# Altium schematic symbol library JLCPCB_CAP_SMD_MLCC.SchLib: 44 symbols
Pins are listed as number, name and electrical type; pins without a type are passive.

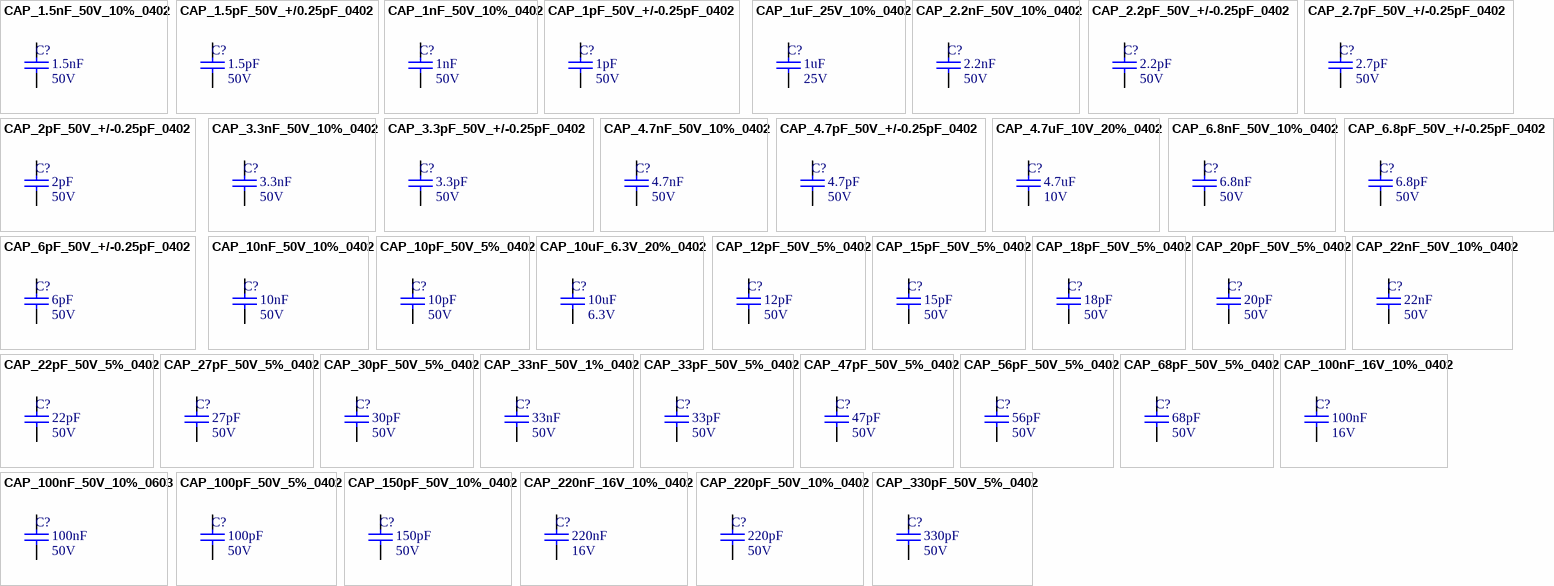
[diagram p0: symbols CAP_1.5nF_50V_10%_0402 to CAP_330pF_50V_5%_0402]

## CAP_1.5nF_50V_10%_0402
designator C?, comment value 1.5nF  Voltage: 50V  (hidden comment: basic)
1.5nF 50V 0402 Multilayer Ceramic Capacitors MLCC - SMD/SMT RoHS; MFR_Part#: CL05B152KB5NNNC; Manufacturer: Samsung Electro-Mechanics; In Stock: Yes; Dielectric: X7R; Tolerance: 10%; ComponentLink1Description: Datasheet; ComponentLink1URL: https://datasheet.lcsc.com/szlcsc/Samsung-Electro-Mechanics-CL05B152KB5NNNC_C23967.pdf; LCSC_Part#: C23967; Package: 0402; Thickness: 0.5mm
footprint CAP_0402_REFLOW (Chip Capacitor, 2-Leads, Body 1,00x0,50mm, IPC Medium Density)
pins: 1, 2

## CAP_1.5pF_50V_+/0.25pF_0402
designator C?, comment value 1.5pF  Voltage: 50V  (hidden comment: basic)
1.5pF 50V 0402 Multilayer Ceramic Capacitors MLCC - SMD/SMT RoHS; MFR_Part#: 0402CG1R5C500NT; Manufacturer: Guangdong Fenghua Advanced Tech; In Stock: Yes; Dielectric: C0G; Tolerance: +/0.25pF; ComponentLink1Description: Datasheet; ComponentLink1URL: https://datasheet.lcsc.com/szlcsc/Guangdong-Fenghua-Advanced-Tech-0402CG1R5C500NT_C1552.pdf; LCSC_Part#: C1552; Package: 0402; Thickness: 0.5mm
footprint CAP_0402_REFLOW (Chip Capacitor, 2-Leads, Body 1,00x0,50mm, IPC Medium Density)
pins: 1, 2

## CAP_1nF_50V_10%_0402
designator C?, comment value 1nF  Voltage: 50V  (hidden comment: basic)
1nF 50V 0402 Multilayer Ceramic Capacitors MLCC - SMD/SMT RoHS; MFR_Part#: 0402B102K500NT; Manufacturer: Guangdong Fenghua Advanced Tech; In Stock: Yes; Dielectric: X7R; Tolerance: 10%; ComponentLink1Description: Datasheet; ComponentLink1URL: https://datasheet.lcsc.com/szlcsc/Guangdong-Fenghua-Advanced-Tech-0402B102K500NT_C1523.pdf; LCSC_Part#: C1523; Package: 0402; Thickness: 0.5mm
footprint CAP_0402_REFLOW (Chip Capacitor, 2-Leads, Body 1,00x0,50mm, IPC Medium Density)
pins: 1, 2

## CAP_1pF_50V_+/-0.25pF_0402
designator C?, comment value 1pF  Voltage: 50V  (hidden comment: basic)
1pF 50V 0402 Multilayer Ceramic Capacitors MLCC - SMD/SMT RoHS; MFR_Part#: 0402CG1R0C500NT; Manufacturer: Guangdong Fenghua Advanced Tech; In Stock: Yes; Dielectric: C0G; Tolerance: +/-0.25pF; ComponentLink1Description: Datasheet; ComponentLink1URL: https://datasheet.lcsc.com/szlcsc/Guangdong-Fenghua-Advanced-Tech-0402CG1R0C500NT_C1550.pdf; LCSC_Part#: C1550; Package: 0402; Thickness: 0.5mm
footprint CAP_0402_REFLOW (Chip Capacitor, 2-Leads, Body 1,00x0,50mm, IPC Medium Density)
pins: 1, 2

## CAP_1uF_25V_10%_0402
designator C?, comment value 1uF  Voltage: 25V  (hidden comment: basic)
1uF 25V 10% 0402 Multilayer Ceramic Capacitors MLCC - SMD/SMT RoHS; MFR_Part#: CL05A105KA5NQNC; Manufacturer: Samsung Electro-Mechanics; In Stock: Yes; Dielectric: X5R; ComponentLink1Description: Datasheet; ComponentLink1URL: https://datasheet.lcsc.com/szlcsc/Samsung-Electro-Mechanics-CL05A105KA5NQNC_C52923.pdf; LCSC_Part#: C52923; Package: 0402; Tolerance: 10%; Thickness: 0.5mm
footprint CAP_0402_REFLOW (Chip Capacitor, 2-Leads, Body 1,00x0,50mm, IPC Medium Density)
pins: 1, 2

## CAP_2.2nF_50V_10%_0402
designator C?, comment value 2.2nF  Voltage: 50V  (hidden comment: basic)
2.2nF 50V 0402 Multilayer Ceramic Capacitors MLCC - SMD/SMT RoHS; MFR_Part#: 0402B222K500NT; Manufacturer: Guangdong Fenghua Advanced Tech; In Stock: Yes; Dielectric: X7R; Tolerance: 10%; ComponentLink1Description: Datasheet; ComponentLink1URL: https://datasheet.lcsc.com/szlcsc/Guangdong-Fenghua-Advanced-Tech-0402B222K500NT_C1531.pdf; LCSC_Part#: C1531; Package: 0402; Thickness: 0.5mm
footprint CAP_0402_REFLOW (Chip Capacitor, 2-Leads, Body 1,00x0,50mm, IPC Medium Density)
pins: 1, 2

## CAP_2.2pF_50V_+/-0.25pF_0402
designator C?, comment value 2.2pF  Voltage: 50V  (hidden comment: basic)
2.2pF 50V 0402 Multilayer Ceramic Capacitors MLCC - SMD/SMT RoHS; MFR_Part#: 0402CG2R2C500NT; Manufacturer: Guangdong Fenghua Advanced Tech; In Stock: Yes; Dielectric: C0G; Tolerance: +/-0.25pF; ComponentLink1Description: Datasheet; ComponentLink1URL: https://datasheet.lcsc.com/szlcsc/Guangdong-Fenghua-Advanced-Tech-0402CG2R2C500NT_C1559.pdf; LCSC_Part#: C1559; Package: 0402; Thickness: 0.5mm
footprint CAP_0402_REFLOW (Chip Capacitor, 2-Leads, Body 1,00x0,50mm, IPC Medium Density)
pins: 1, 2

## CAP_2.7pF_50V_+/-0.25pF_0402
designator C?, comment value 2.7pF  Voltage: 50V  (hidden comment: basic)
2.7nF 50V 0402 Multilayer Ceramic Capacitors MLCC - SMD/SMT RoHS; MFR_Part#: 0402CG2R7C500NT; Manufacturer: Guangdong Fenghua Advanced Tech; In Stock: Yes; Dielectric: C0G; Tolerance: +/-0.25pF; ComponentLink1Description: Datasheet; ComponentLink1URL: https://datasheet.lcsc.com/szlcsc/Guangdong-Fenghua-Advanced-Tech-0402CG2R7C500NT_C1561.pdf; LCSC_Part#: C1561; Package: 0402; Thickness: 0.5mm
footprint CAP_0402_REFLOW (Chip Capacitor, 2-Leads, Body 1,00x0,50mm, IPC Medium Density)
pins: 1, 2

## CAP_2pF_50V_+/-0.25pF_0402
designator C?, comment value 2pF  Voltage: 50V  (hidden comment: basic)
2pF 50V 0402 Multilayer Ceramic Capacitors MLCC - SMD/SMT RoHS; MFR_Part#: 0402CG2R0C500NT; Manufacturer: Guangdong Fenghua Advanced Tech; In Stock: Yes; Dielectric: C0G; Tolerance: +/-0.25pF; ComponentLink1Description: Datasheet; ComponentLink1URL: https://datasheet.lcsc.com/szlcsc/Guangdong-Fenghua-Advanced-Tech-0402CG2R0C500NT_C1558.pdf; LCSC_Part#: C1558; Package: 0402; Thickness: 0.5mm
footprint CAP_0402_REFLOW (Chip Capacitor, 2-Leads, Body 1,00x0,50mm, IPC Medium Density)
pins: 1, 2

## CAP_3.3nF_50V_10%_0402
designator C?, comment value 3.3nF  Voltage: 50V  (hidden comment: basic)
3.3nF 50V 0402 Multilayer Ceramic Capacitors MLCC - SMD/SMT RoHS; MFR_Part#: CL05B332KB5NNNC; Manufacturer: Samsung Electro-Mechanics; In Stock: Yes; Dielectric: X7R; Tolerance: 10%; ComponentLink1Description: Datasheet; ComponentLink1URL: https://datasheet.lcsc.com/szlcsc/Samsung-Electro-Mechanics-CL05B332KB5NNNC_C26404.pdf; LCSC_Part#: C26404; Package: 0402; Thickness: 0.5mm
footprint CAP_0402_REFLOW (Chip Capacitor, 2-Leads, Body 1,00x0,50mm, IPC Medium Density)
pins: 1, 2

## CAP_3.3pF_50V_+/-0.25pF_0402
designator C?, comment value 3.3pF  Voltage: 50V  (hidden comment: basic)
3.3pF 50V 0402 Multilayer Ceramic Capacitors MLCC - SMD/SMT RoHS; MFR_Part#: 0402CG3R3C500NT; Manufacturer: Guangdong Fenghua Advanced Tech; In Stock: Yes; Dielectric: C0G; Tolerance: +/-0.25pF; ComponentLink1Description: Datasheet; ComponentLink1URL: https://datasheet.lcsc.com/szlcsc/Guangdong-Fenghua-Advanced-Tech-0402CG3R3C500NT_C1565.pdf; LCSC_Part#: C1565; Package: 0402; Thickness: 0.5mm
footprint CAP_0402_REFLOW (Chip Capacitor, 2-Leads, Body 1,00x0,50mm, IPC Medium Density)
pins: 1, 2

## CAP_4.7nF_50V_10%_0402
designator C?, comment value 4.7nF  Voltage: 50V  (hidden comment: basic)
4.7nF 50V 0402 Multilayer Ceramic Capacitors MLCC - SMD/SMT RoHS; MFR_Part#: 0402B472K500NT; Manufacturer: Guangdong Fenghua Advanced Tech; In Stock: Yes; Dielectric: X7R; Tolerance: 10%; ComponentLink1Description: Datasheet; ComponentLink1URL: https://datasheet.lcsc.com/szlcsc/Guangdong-Fenghua-Advanced-Tech-0402B472K500NT_C1538.pdf; LCSC_Part#: C1538; Package: 0402; Thickness: 0.5mm
footprint CAP_0402_REFLOW (Chip Capacitor, 2-Leads, Body 1,00x0,50mm, IPC Medium Density)
pins: 1, 2

## CAP_4.7pF_50V_+/-0.25pF_0402
designator C?, comment value 4.7pF  Voltage: 50V  (hidden comment: basic)
4.7pF 50V 0402 Multilayer Ceramic Capacitors MLCC - SMD/SMT RoHS; MFR_Part#: 0402CG4R7C500NT; Manufacturer: Guangdong Fenghua Advanced Tech; In Stock: Yes; Dielectric: C0G; Tolerance: +/-0.25pF; ComponentLink1Description: Datasheet; ComponentLink1URL: https://datasheet.lcsc.com/szlcsc/Guangdong-Fenghua-Advanced-Tech-0402CG4R7C500NT_C1569.pdf; LCSC_Part#: C1569; Package: 0402; Thickness: 0.5mm
footprint CAP_0402_REFLOW (Chip Capacitor, 2-Leads, Body 1,00x0,50mm, IPC Medium Density)
pins: 1, 2

## CAP_4.7uF_10V_20%_0402
designator C?, comment value 4.7uF  Voltage: 10V  (hidden comment: basic)
4.7uF 10V 0402 Multilayer Ceramic Capacitors MLCC - SMD/SMT RoHS; MFR_Part#: CL05A475MP5NRNC; Manufacturer: Samsung Electro-Mechanics; In Stock: Yes; Dielectric: X5R; Tolerance: 20%; ComponentLink1Description: Datasheet; ComponentLink1URL: https://datasheet.lcsc.com/szlcsc/Samsung-Electro-Mechanics-CL05A475MP5NRNC_C23733.pdf; LCSC_Part#: C23733; Package: 0402; Thickness: 0.65mm
footprint CAP_0402_REFLOW (Chip Capacitor, 2-Leads, Body 1,00x0,50mm, IPC Medium Density)
pins: 1, 2

## CAP_6.8nF_50V_10%_0402
designator C?, comment value 6.8nF  Voltage: 50V  (hidden comment: basic)
6.8nF 50V 0402 Multilayer Ceramic Capacitors MLCC - SMD/SMT RoHS; MFR_Part#: 0402B682K500NT; Manufacturer: Guangdong Fenghua Advanced Tech; In Stock: Yes; Dielectric: X7R; Tolerance: 10%; ComponentLink1Description: Datasheet; ComponentLink1URL: https://datasheet.lcsc.com/szlcsc/Guangdong-Fenghua-Advanced-Tech-0402B682K500NT_C1542.pdf; LCSC_Part#: C1542; Package: 0402; Thickness: 0.5mm
footprint CAP_0402_REFLOW (Chip Capacitor, 2-Leads, Body 1,00x0,50mm, IPC Medium Density)
pins: 1, 2

## CAP_6.8pF_50V_+/-0.25pF_0402
designator C?, comment value 6.8pF  Voltage: 50V  (hidden comment: basic)
6.8pF 50V 0402 Multilayer Ceramic Capacitors MLCC - SMD/SMT RoHS; MFR_Part#: 0402CG6R8C500NT; Manufacturer: Guangdong Fenghua Advanced Tech; In Stock: Yes; Dielectric: C0G; Tolerance: +/-0.25pF; ComponentLink1Description: Datasheet; ComponentLink1URL: https://datasheet.lcsc.com/szlcsc/Guangdong-Fenghua-Advanced-Tech-0402CG6R8C500NT_C1576.pdf; LCSC_Part#: C1576; Package: 0402; Thickness: 0.5mm
footprint CAP_0402_REFLOW (Chip Capacitor, 2-Leads, Body 1,00x0,50mm, IPC Medium Density)
pins: 1, 2

## CAP_6pF_50V_+/-0.25pF_0402
designator C?, comment value 6pF  Voltage: 50V  (hidden comment: basic)
6pF 50V 0402 Multilayer Ceramic Capacitors MLCC - SMD/SMT RoHS; MFR_Part#: 0402CG6R0C500NT; Manufacturer: Guangdong Fenghua Advanced Tech; In Stock: Yes; Dielectric: C0G; Tolerance: +/-0.25pF; ComponentLink1Description: Datasheet; ComponentLink1URL: https://datasheet.lcsc.com/szlcsc/Guangdong-Fenghua-Advanced-Tech-0402CG6R0C500NT_C30274.pdf; LCSC_Part#: C30274; Package: 0402; Thickness: 0.5mm
footprint CAP_0402_REFLOW (Chip Capacitor, 2-Leads, Body 1,00x0,50mm, IPC Medium Density)
pins: 1, 2

## CAP_10nF_50V_10%_0402
designator C?, comment value 10nF  Voltage: 50V  (hidden comment: basic)
10nF 50V 0402 Multilayer Ceramic Capacitors MLCC - SMD/SMT RoHS; MFR_Part#: CL05B103KB5NNNC; Manufacturer: Samsung Electro-Mechanics; In Stock: Yes; Dielectric: X7R; Tolerance: 10%; ComponentLink1Description: Datasheet; ComponentLink1URL: https://datasheet.lcsc.com/szlcsc/Samsung-Electro-Mechanics-CL05B103KB5NNNC_C15195.pdf; LCSC_Part#: C15195; Package: 0402; Thickness: 0.5mm
footprint CAP_0402_REFLOW (Chip Capacitor, 2-Leads, Body 1,00x0,50mm, IPC Medium Density)
pins: 1, 2

## CAP_10pF_50V_5%_0402
designator C?, comment value 10pF  Voltage: 50V  (hidden comment: basic)
10pF 50V 0402 Multilayer Ceramic Capacitors MLCC - SMD/SMT RoHS; MFR_Part#: CL05C100JB5NNNC; Manufacturer: Samsung Electro-Mechanics; In Stock: Yes; Dielectric: C0G; Tolerance: 5%; ComponentLink1Description: Datasheet; ComponentLink1URL: https://datasheet.lcsc.com/szlcsc/Samsung-Electro-Mechanics-CL05C100JB5NNNC_C32949.pdf; LCSC_Part#: C32949; Package: 0402; Thickness: 0.5mm
footprint CAP_0402_REFLOW (Chip Capacitor, 2-Leads, Body 1,00x0,50mm, IPC Medium Density)
pins: 1, 2

## CAP_10uF_6.3V_20%_0402
designator C?, comment value 10uF  Voltage: 6.3V  (hidden comment: basic)
10uF 6.3V 0402 Multilayer Ceramic Capacitors MLCC - SMD/SMT RoHS; MFR_Part#: CL05A106MQ5NUNC; Manufacturer: Samsung Electro-Mechanics; In Stock: Yes; Dielectric: X5R; Tolerance: 20%; ComponentLink1Description: Datasheet; ComponentLink1URL: https://datasheet.lcsc.com/szlcsc/Samsung-Electro-Mechanics-CL05A106MQ5NUNC_C15525.pdf; LCSC_Part#: C15525; Package: 0402; Thickness: 0.5mm
footprint CAP_0402_REFLOW (Chip Capacitor, 2-Leads, Body 1,00x0,50mm, IPC Medium Density)
pins: 1, 2

## CAP_12pF_50V_5%_0402
designator C?, comment value 12pF  Voltage: 50V  (hidden comment: basic)
12pF 50V 0402 Multilayer Ceramic Capacitors MLCC - SMD/SMT RoHS; MFR_Part#: 0402CG120J500NT; Manufacturer: Guangdong Fenghua Advanced Tech; In Stock: Yes; Dielectric: C0G; Tolerance: 5%; ComponentLink1Description: Datasheet; ComponentLink1URL: https://datasheet.lcsc.com/szlcsc/Guangdong-Fenghua-Advanced-Tech-0402CG120J500NT_C1547.pdf; LCSC_Part#: C1547; Package: 0402; Thickness: 0.5mm
footprint CAP_0402_REFLOW (Chip Capacitor, 2-Leads, Body 1,00x0,50mm, IPC Medium Density)
pins: 1, 2

## CAP_15pF_50V_5%_0402
designator C?, comment value 15pF  Voltage: 50V  (hidden comment: basic)
15pF 50V 0402 Multilayer Ceramic Capacitors MLCC - SMD/SMT RoHS; MFR_Part#: 0402CG150J500NT; Manufacturer: Guangdong Fenghua Advanced Tech; In Stock: Yes; Dielectric: C0G; Tolerance: 5%; ComponentLink1Description: Datasheet; ComponentLink1URL: https://datasheet.lcsc.com/szlcsc/Guangdong-Fenghua-Advanced-Tech-0402CG150J500NT_C1548.pdf; LCSC_Part#: C1548; Package: 0402; Thickness: 0.5mm
footprint CAP_0402_REFLOW (Chip Capacitor, 2-Leads, Body 1,00x0,50mm, IPC Medium Density)
pins: 1, 2

## CAP_18pF_50V_5%_0402
designator C?, comment value 18pF  Voltage: 50V  (hidden comment: basic)
18pF 50V 0402 Multilayer Ceramic Capacitors MLCC - SMD/SMT RoHS; MFR_Part#: 0402CG180J500NT; Manufacturer: Guangdong Fenghua Advanced Tech; In Stock: Yes; Dielectric: C0G; Tolerance: 5%; ComponentLink1Description: Datasheet; ComponentLink1URL: https://datasheet.lcsc.com/szlcsc/Guangdong-Fenghua-Advanced-Tech-0402CG180J500NT_C1549.pdf; LCSC_Part#: C1549; Package: 0402; Thickness: 0.5mm
footprint CAP_0402_REFLOW (Chip Capacitor, 2-Leads, Body 1,00x0,50mm, IPC Medium Density)
pins: 1, 2

## CAP_20pF_50V_5%_0402
designator C?, comment value 20pF  Voltage: 50V  (hidden comment: basic)
20pF 50V 0402 Multilayer Ceramic Capacitors MLCC - SMD/SMT RoHS; MFR_Part#: 0402CG200J500NT; Manufacturer: Guangdong Fenghua Advanced Tech; In Stock: Yes; Dielectric: C0G; Tolerance: 5%; ComponentLink1Description: Datasheet; ComponentLink1URL: https://datasheet.lcsc.com/szlcsc/Guangdong-Fenghua-Advanced-Tech-0402CG200J500NT_C1554.pdf; LCSC_Part#: C1554; Package: 0402; Thickness: 0.5mm
footprint CAP_0402_REFLOW (Chip Capacitor, 2-Leads, Body 1,00x0,50mm, IPC Medium Density)
pins: 1, 2

## CAP_22nF_50V_10%_0402
designator C?, comment value 22nF  Voltage: 50V  (hidden comment: basic)
22nF 50V 0402 Multilayer Ceramic Capacitors MLCC - SMD/SMT RoHS; MFR_Part#: 0402B223K500NT; Manufacturer: Guangdong Fenghua Advanced Tech; In Stock: Yes; Dielectric: X7R; Tolerance: 10%; ComponentLink1Description: Datasheet; ComponentLink1URL: https://datasheet.lcsc.com/szlcsc/Guangdong-Fenghua-Advanced-Tech-0402B223K500NT_C1532.pdf; LCSC_Part#: C1532; Package: 0402; Thickness: 0.5mm
footprint CAP_0402_REFLOW (Chip Capacitor, 2-Leads, Body 1,00x0,50mm, IPC Medium Density)
pins: 1, 2

## CAP_22pF_50V_5%_0402
designator C?, comment value 22pF  Voltage: 50V  (hidden comment: basic)
22pF 50V 0402 Multilayer Ceramic Capacitors MLCC - SMD/SMT RoHS; MFR_Part#: 0402CG220J500NT; Manufacturer: Guangdong Fenghua Advanced Tech; In Stock: Yes; Dielectric: C0G; Tolerance: 5%; ComponentLink1Description: Datasheet; ComponentLink1URL: https://datasheet.lcsc.com/szlcsc/Guangdong-Fenghua-Advanced-Tech-0402CG220J500NT_C1555.pdf; LCSC_Part#: C1555; Package: 0402; Thickness: 0.5mm
footprint CAP_0402_REFLOW (Chip Capacitor, 2-Leads, Body 1,00x0,50mm, IPC Medium Density)
pins: 1, 2

## CAP_27pF_50V_5%_0402
designator C?, comment value 27pF  Voltage: 50V  (hidden comment: basic)
27pF 50V 0402 Multilayer Ceramic Capacitors MLCC - SMD/SMT RoHS; MFR_Part#: 0402CG270J500NTN; Manufacturer: Guangdong Fenghua Advanced Tech; In Stock: Yes; Dielectric: C0G; Tolerance: 5%; ComponentLink1Description: Datasheet; ComponentLink1URL: https://datasheet.lcsc.com/szlcsc/Guangdong-Fenghua-Advanced-Tech-0402CG270J500NTN_C1557.pdf; LCSC_Part#: C1557; Package: 0402; Thickness: 0.5mm
footprint CAP_0402_REFLOW (Chip Capacitor, 2-Leads, Body 1,00x0,50mm, IPC Medium Density)
pins: 1, 2

## CAP_30pF_50V_5%_0402
designator C?, comment value 30pF  Voltage: 50V  (hidden comment: basic)
30pF 50V 0402 Multilayer Ceramic Capacitors MLCC - SMD/SMT RoHS; MFR_Part#: 0402CG300J500NT; Manufacturer: Guangdong Fenghua Advanced Tech; In Stock: Yes; Dielectric: C0G; Tolerance: 5%; ComponentLink1Description: Datasheet; ComponentLink1URL: https://datasheet.lcsc.com/szlcsc/Guangdong-Fenghua-Advanced-Tech-0402B151K500NT_C1570.pdf; LCSC_Part#: C1570; Package: 0402; Thickness: 0.5mm
footprint CAP_0402_REFLOW (Chip Capacitor, 2-Leads, Body 1,00x0,50mm, IPC Medium Density)
pins: 1, 2

## CAP_33nF_50V_1%_0402
designator C?, comment value 33nF  Voltage: 50V  (hidden comment: basic)
33nF 50V 0402 Multilayer Ceramic Capacitors MLCC - SMD/SMT RoHS; MFR_Part#: 0402F333M500NT; Manufacturer: Guangdong Fenghua Advanced Tech; In Stock: Yes; Dielectric: Y5V; Tolerance: 1%; ComponentLink1Description: Datasheet; ComponentLink1URL: https://datasheet.lcsc.com/szlcsc/Guangdong-Fenghua-Advanced-Tech-0402F333M500NT_C1585.pdf; LCSC_Part#: C1585; Package: 0402; Thickness: 0.5mm
footprint CAP_0402_REFLOW (Chip Capacitor, 2-Leads, Body 1,00x0,50mm, IPC Medium Density)
pins: 1, 2

## CAP_33pF_50V_5%_0402
designator C?, comment value 33pF  Voltage: 50V  (hidden comment: basic)
33pF 50V 0402 Multilayer Ceramic Capacitors MLCC - SMD/SMT RoHS; MFR_Part#: 0402CG330J500NT; Manufacturer: Guangdong Fenghua Advanced Tech; In Stock: Yes; Dielectric: C0G; Tolerance: 5%; ComponentLink1Description: Datasheet; ComponentLink1URL: https://datasheet.lcsc.com/szlcsc/Guangdong-Fenghua-Advanced-Tech-0402CG330J500NT_C1562.pdf; LCSC_Part#: C1562; Package: 0402; Thickness: 0.5mm
footprint CAP_0402_REFLOW (Chip Capacitor, 2-Leads, Body 1,00x0,50mm, IPC Medium Density)
pins: 1, 2

## CAP_47pF_50V_5%_0402
designator C?, comment value 47pF  Voltage: 50V  (hidden comment: basic)
47pF 50V 0402 Multilayer Ceramic Capacitors MLCC - SMD/SMT RoHS; MFR_Part#: 0402CG470J500NT; Manufacturer: Guangdong Fenghua Advanced Tech; In Stock: Yes; Dielectric: C0G; Tolerance: 5%; ComponentLink1Description: Datasheet; ComponentLink1URL: https://datasheet.lcsc.com/szlcsc/Guangdong-Fenghua-Advanced-Tech-0402CG470J500NT_C1567.pdf; LCSC_Part#: C1567; Package: 0402; Thickness: 0.5mm
footprint CAP_0402_REFLOW (Chip Capacitor, 2-Leads, Body 1,00x0,50mm, IPC Medium Density)
pins: 1, 2

## CAP_56pF_50V_5%_0402
designator C?, comment value 56pF  Voltage: 50V  (hidden comment: basic)
56pF 50V 0402 Multilayer Ceramic Capacitors MLCC - SMD/SMT RoHS; MFR_Part#: 0402CG560J500NT; Manufacturer: Guangdong Fenghua Advanced Tech; In Stock: Yes; Dielectric: C0G; Tolerance: 5%; ComponentLink1Description: Datasheet; ComponentLink1URL: https://datasheet.lcsc.com/szlcsc/Guangdong-Fenghua-Advanced-Tech-0402CG560J500NT_C1572.pdf; LCSC_Part#: C1572; Package: 0402; Thickness: 0.5mm
footprint CAP_0402_REFLOW (Chip Capacitor, 2-Leads, Body 1,00x0,50mm, IPC Medium Density)
pins: 1, 2

## CAP_68pF_50V_5%_0402
designator C?, comment value 68pF  Voltage: 50V  (hidden comment: basic)
68pF 50V 0402 Multilayer Ceramic Capacitors MLCC - SMD/SMT RoHS; MFR_Part#: CL05C680JB5NNNC; Manufacturer: Samsung Electro-Mechanics; In Stock: Yes; Dielectric: C0G; Tolerance: 5%; ComponentLink1Description: Datasheet; ComponentLink1URL: https://datasheet.lcsc.com/szlcsc/Samsung-Electro-Mechanics-CL05C680JB5NNNC_C14441.pdf; LCSC_Part#: C14441; Package: 0402; Thickness: 0.5mm
footprint CAP_0402_REFLOW (Chip Capacitor, 2-Leads, Body 1,00x0,50mm, IPC Medium Density)
pins: 1, 2

## CAP_100nF_16V_10%_0402
designator C?, comment value 100nF  Voltage: 16V  (hidden comment: basic)
100nF 16V 0402 Multilayer Ceramic Capacitors MLCC - SMD/SMT RoHS; MFR_Part#: CL05B104KO5NNNC; Manufacturer: Samsung Electro-Mechanics; In Stock: Yes; Dielectric: X7R; Tolerance: 10%; ComponentLink1Description: Datasheet; ComponentLink1URL: https://datasheet.lcsc.com/szlcsc/Samsung-Electro-Mechanics-CL05B104KO5NNNC_C1525.pdf; LCSC_Part#: C1525; Package: 0402; Thickness: 0.5mm
footprint CAP_0402_REFLOW (Chip Capacitor, 2-Leads, Body 1,00x0,50mm, IPC Medium Density)
pins: 1, 2

## CAP_100nF_50V_10%_0603
designator C?, comment value 100nF  Voltage: 50V  (hidden comment: basic)
100nF 50V 0603 Multilayer Ceramic Capacitors MLCC - SMD/SMT RoHS; MFR_Part#: CC0603KRX7R9BB104; Manufacturer: YAGEO; In Stock: Yes; Dielectric: X7R; Tolerance: 10%; ComponentLink1Description: Datasheet; ComponentLink1URL: https://datasheet.lcsc.com/szlcsc/YAGEO-CC0603KRX7R9BB104_C14663.pdf; LCSC_Part#: C14663; Package: 0402; Thickness: 0.8mm
footprint CAP_0603_REFLOW (Chip Capacitor, 2-Leads, Body 1,60x0,80mm, IPC Medium Density)
pins: 1, 2

## CAP_100pF_50V_5%_0402
designator C?, comment value 100pF  Voltage: 50V  (hidden comment: basic)
100pF 50V 0402 Multilayer Ceramic Capacitors MLCC - SMD/SMT RoHS; MFR_Part#: 0402CG101J500NT; Manufacturer: Guangdong Fenghua Advanced Tech; In Stock: Yes; Dielectric: C0G; Tolerance: 5%; ComponentLink1Description: Datasheet; ComponentLink1URL: https://datasheet.lcsc.com/szlcsc/Guangdong-Fenghua-Advanced-Tech-0402CG101J500NT_C1546.pdf; LCSC_Part#: C1546; Package: 0402; Thickness: 0.5mm
footprint CAP_0402_REFLOW (Chip Capacitor, 2-Leads, Body 1,00x0,50mm, IPC Medium Density)
pins: 1, 2

## CAP_150pF_50V_10%_0402
designator C?, comment value 150pF  Voltage: 50V  (hidden comment: basic)
150pF 50V 0402 Multilayer Ceramic Capacitors MLCC - SMD/SMT RoHS; MFR_Part#: 0402B151K500NT; Manufacturer: Guangdong Fenghua Advanced Tech; In Stock: Yes; Dielectric: X7R; Tolerance: 10%; ComponentLink1Description: Datasheet; ComponentLink1URL: https://datasheet.lcsc.com/szlcsc/Guangdong-Fenghua-Advanced-Tech-0402B151K500NT_C1527.pdf; LCSC_Part#: C1527; Package: 0402; Thickness: 0.5mm
footprint CAP_0402_REFLOW (Chip Capacitor, 2-Leads, Body 1,00x0,50mm, IPC Medium Density)
pins: 1, 2

## CAP_220nF_16V_10%_0402
designator C?, comment value 220nF  Voltage: 16V  (hidden comment: basic)
220nF 16V 0402 Multilayer Ceramic Capacitors MLCC - SMD/SMT RoHS; MFR_Part#: CL05B224KO5NNNC; Manufacturer: Samsung Electro-Mechanics; In Stock: Yes; Dielectric: X7R; Tolerance: 10%; ComponentLink1Description: Datasheet; ComponentLink1URL: https://datasheet.lcsc.com/szlcsc/Samsung-Electro-Mechanics-CL05B224KO5NNNC_C16772.pdf; LCSC_Part#: C16772; Package: 0402; Thickness: 0.5mm
footprint CAP_0402_REFLOW (Chip Capacitor, 2-Leads, Body 1,00x0,50mm, IPC Medium Density)
pins: 1, 2

## CAP_220pF_50V_10%_0402
designator C?, comment value 220pF  Voltage: 50V  (hidden comment: basic)
220pF 50V 0402 Multilayer Ceramic Capacitors MLCC - SMD/SMT RoHS; MFR_Part#: 0402B221K500NT; Manufacturer: Guangdong Fenghua Advanced Tech; In Stock: Yes; Dielectric: X7R; Tolerance: 10%; ComponentLink1Description: Datasheet; ComponentLink1URL: https://datasheet.lcsc.com/szlcsc/Guangdong-Fenghua-Advanced-Tech-0402B221K500NT_C1530.pdf; LCSC_Part#: C1530; Package: 0402; Thickness: 0.5mm
footprint CAP_0402_REFLOW (Chip Capacitor, 2-Leads, Body 1,00x0,50mm, IPC Medium Density)
pins: 1, 2

## CAP_330pF_50V_5%_0402
designator C?, comment value 330pF  Voltage: 50V  (hidden comment: basic)
330pF 50V 0402 Multilayer Ceramic Capacitors MLCC - SMD/SMT RoHS; MFR_Part#: CL05C331JB5NNNC; Manufacturer: Samsung Electro-Mechanics; In Stock: Yes; Dielectric: C0G; Tolerance: 5%; ComponentLink1Description: Datasheet; ComponentLink1URL: https://datasheet.lcsc.com/szlcsc/Samsung-Electro-Mechanics-CL05C331JB5NNNC_C13533.pdf; LCSC_Part#: C13533; Package: 0402; Thickness: 0.5mm
footprint CAP_0402_REFLOW (Chip Capacitor, 2-Leads, Body 1,00x0,50mm, IPC Medium Density)
pins: 1, 2

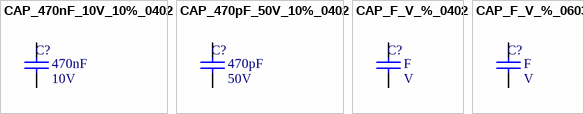
[diagram p1: symbols CAP_470nF_10V_10%_0402 to CAP_F_V_%_0603]

## CAP_470nF_10V_10%_0402
designator C?, comment value 470nF  Voltage: 10V  (hidden comment: basic)
470nF 10V 0402 Multilayer Ceramic Capacitors MLCC - SMD/SMT RoHS; MFR_Part#: CL05A474KP5NNNC; Manufacturer: Samsung Electro-Mechanics; In Stock: Yes; Dielectric: X5R; Tolerance: 10%; ComponentLink1Description: Datasheet; ComponentLink1URL: https://datasheet.lcsc.com/szlcsc/Samsung-Electro-Mechanics-CL05A474KP5NNNC_C47339.pdf; LCSC_Part#: C47339; Package: 0402; Thickness: 0.5mm
footprint CAP_0402_REFLOW (Chip Capacitor, 2-Leads, Body 1,00x0,50mm, IPC Medium Density)
pins: 1, 2

## CAP_470pF_50V_10%_0402
designator C?, comment value 470pF  Voltage: 50V  (hidden comment: basic)
470pF 50V 0402 Multilayer Ceramic Capacitors MLCC - SMD/SMT RoHS; MFR_Part#: 0402B471K500NT; Manufacturer: Guangdong Fenghua Advanced Tech; In Stock: Yes; Dielectric: X7R; Tolerance: 10%; ComponentLink1Description: Datasheet; ComponentLink1URL: https://datasheet.lcsc.com/szlcsc/Guangdong-Fenghua-Advanced-Tech-0402B471K500NT_C1537.pdf; LCSC_Part#: C1537; Package: 0402; Thickness: 0.5mm
footprint CAP_0402_REFLOW (Chip Capacitor, 2-Leads, Body 1,00x0,50mm, IPC Medium Density)
pins: 1, 2

## CAP_F_V_%_0402
designator C?, comment value F  Voltage: V  (hidden comment: basic)
F V 0402 Multilayer Ceramic Capacitors MLCC - SMD/SMT RoHS; In Stock: Yes; Tolerance: %; ComponentLink1Description: Datasheet; Package: 0402; Thickness: 0.5mm
footprint CAP_0402_REFLOW (Chip Capacitor, 2-Leads, Body 1,00x0,50mm, IPC Medium Density)
pins: 1, 2

## CAP_F_V_%_0603
designator C?, comment value F  Voltage: V  (hidden comment: basic)
F V 0603 Multilayer Ceramic Capacitors MLCC - SMD/SMT RoHS; In Stock: Yes; Tolerance: %; ComponentLink1Description: Datasheet; Package: 0402; Thickness: 0.5mm
footprint CAP_0603_REFLOW (Chip Capacitor, 2-Leads, Body 1,60x0,80mm, IPC Medium Density)
pins: 1, 2